# Altium footprint library DIP850W46P254L2324H393Q18.PcbLib: 1 footprints
Each footprint in its own frame and in the unit in brackets; x right, y up, seen from the top. Pads: shape width x height; smd on the part's side, far side on the other; paste and mask are expansions set on the pad; w line width, h text height; cw(c..) or ccw(c..) is an arc to the next point about the centre after c.
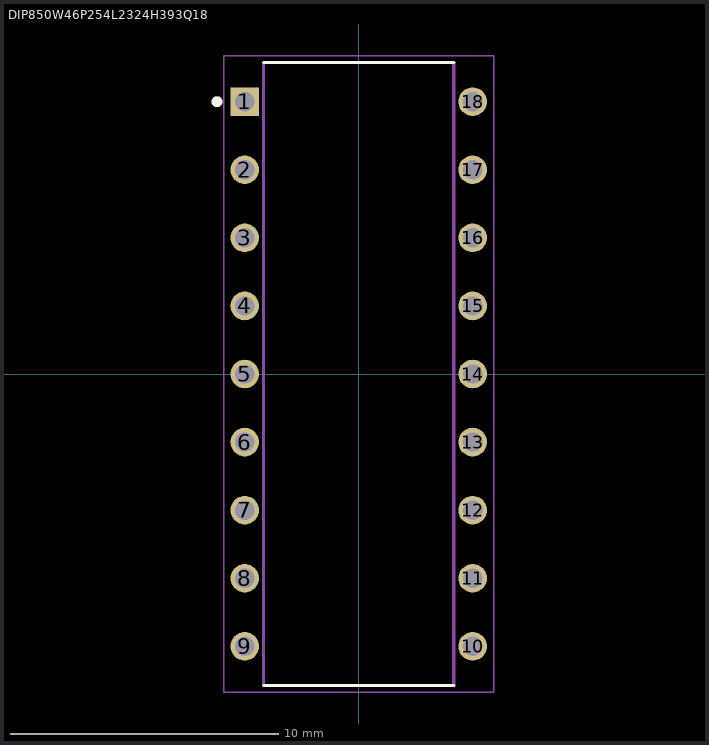
[diagram p0: the footprint, top view; thin cyan lines are the x and y axes]

## DIP850W46P254L2324H393Q18 [mm]
pads (18):
  rect 1.07x1.07 hole 0.72: 1(-4.25,10.16)
  round 1.07 hole 0.72: 2(-4.25,7.62) 3(-4.25,5.08) 4(-4.25,2.54) 5(-4.25,0) 6(-4.25,-2.54) 7(-4.25,-5.08) 8(-4.25,-7.62) 9(-4.25,-10.16) 10(4.25,-10.16) 11(4.25,-7.62) 12(4.25,-5.08) 13(4.25,-2.54) 14(4.25,0) 15(4.25,2.54) 16(4.25,5.08) 17(4.25,7.62) 18(4.25,10.16)
Top Overlay:
  circle w0.2: c-5.285,10.16 r0.1
  lines w0.127: -3.55,-11.62 3.55,-11.62 ; -3.55,11.62 3.55,11.62
Mechanical 13:
  circle w0.2: c-5.285,10.16 r0.1
  lines w0.127: -3.55,-11.62 3.55,-11.62 3.55,11.62 -3.55,11.62 -3.55,-11.62
Mechanical 15:
  lines w0.05: -5.035,-11.87 5.035,-11.87 5.035,11.87 -5.035,11.87 -5.035,-11.87